# Altium footprint library Разъёмы.PcbLib: 14 footprints
Each footprint in its own frame and in the unit in brackets; x right, y up, seen from the top. Pads: shape width x height; smd on the part's side, far side on the other; paste and mask are expansions set on the pad; w line width, h text height; cw(c..) or ccw(c..) is an arc to the next point about the centre after c.
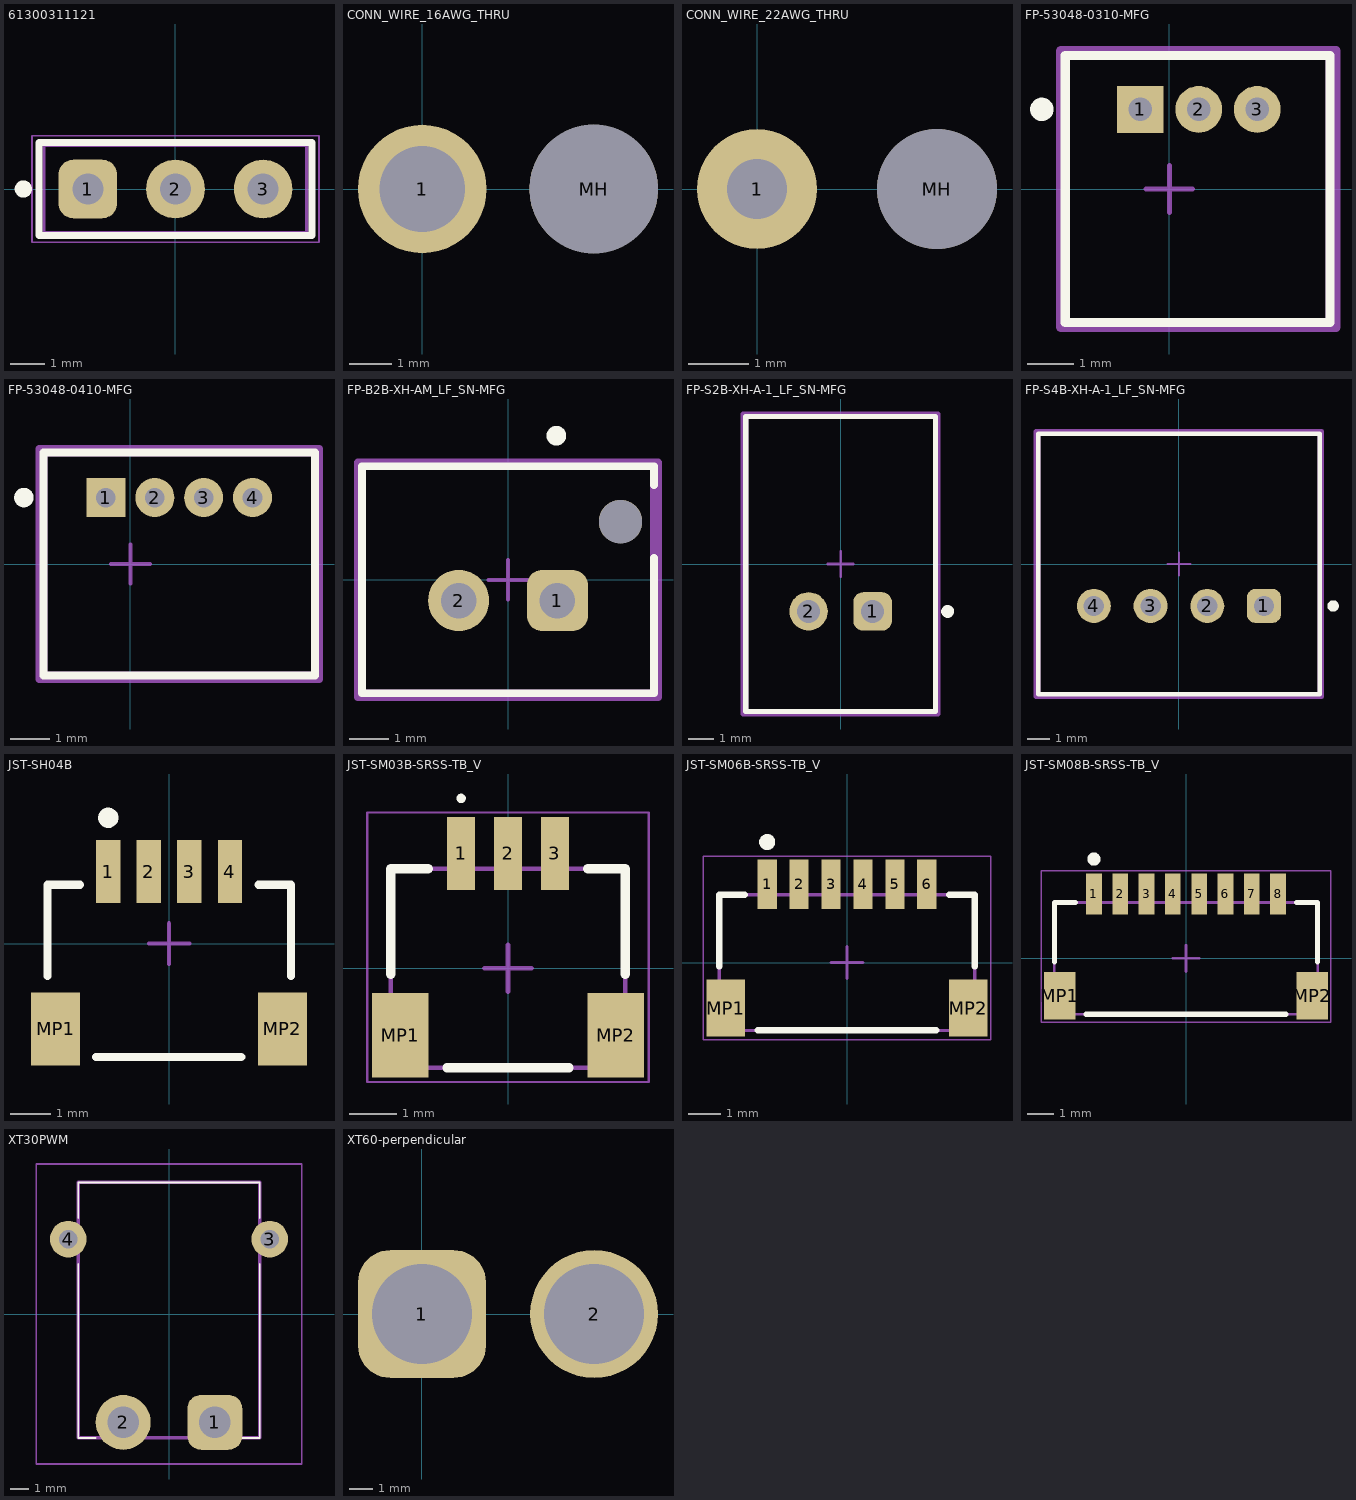
[diagram p0: the footprints below, top view; thin cyan lines are the x and y axes]

## 61300311121 [mm] "Pin Header, pitch 2.54 mm, THT, Vertical, single row, 3p"
height 8.54
pads (3):
  rrect50% 1.7x1.7 hole 0.9: 1(-2.54,0)
  round 1.7 hole 0.9: 2(0,0) 3(2.54,0)
Top Overlay:
  circle w0.25: c-4.41,0 r0.125
  lines w0.2: -3.96,-1.345 3.96,-1.345 3.96,1.345 -3.96,1.345 -3.96,-1.345
Top Courtyard:
  lines w0.05: -4.16,-1.545 -4.16,1.545 4.16,1.545 4.16,-1.545 -4.16,-1.545
Top Designator:
  text ".Designator" at -7.498,-0.5 h1.5
Top Component Outline:
  lines w0.1: -3.81,-1.27 -3.81,1.27 3.81,1.27 3.81,-1.27 -3.81,-1.27
Top Component Center:
  lines w0.05: -0.5,0 0.5,0 ; 0,-0.5 0,0.5
3D body "61300311121.stp": height 8.57, standoff -2.97, extent -3.81,-1.27 3.81,1.27

## CONN_WIRE_16AWG_THRU [mm]
pads (2):
  round 3 hole 2 paste-2539.97 mask+0: 1(0,0)
  round 3 hole 3 unplated paste-2539.97 mask+0: MH(4,0)

## CONN_WIRE_22AWG_THRU [mm]
pads (2):
  round 2 hole 1 paste-2539.97 mask+0: 1(0,0)
  round 2 hole 2 unplated paste-2539.97 mask+0: MH(3,0)

## FP-53048-0310-MFG [mm]
pads (3):
  rect 1x1 hole 0.5 paste-2539.97 mask+0: 1(-0.625,1.7)
  round 1 hole 0.5 paste-2539.97 mask+0: 2(0.625,1.7) 3(1.875,1.7)
Top Overlay:
  circle w0.25: c-2.725,1.7 r0.125
  lines w0.2: -2.225,-2.85 -2.225,2.85 3.429,2.85 3.429,-2.85 -2.225,-2.85
Top Courtyard:
  lines w0.2: -2.325,-2.95 -2.325,2.95 3.531,2.95 3.531,-2.95 -2.325,-2.95
Top 3D Body:
  lines w0.2: -2.225,-2.85 -2.225,2.85 3.429,2.85 3.429,-2.85 -2.225,-2.85
Top Assembly:
  lines w0.2: -2.325,-2.95 -2.325,2.95 3.556,2.95 3.556,-2.95 -2.325,-2.95
  text ".Designator" at 0,0.188 h1
Top Component Center:
  lines w0.1: -0.5,0 0.5,0 ; 0,-0.5 0,0.5
3D body "0530480310.stp": height 3.5, standoff -2.3, extent -2.134,-2.75 3.366,2.75

## FP-53048-0410-MFG [mm]
pads (4):
  rect 1x1 hole 0.5 paste-2539.97 mask+0: 1(-0.625,1.7)
  round 1 hole 0.5 paste-2539.97 mask+0: 2(0.625,1.7) 3(1.875,1.7) 4(3.125,1.7)
Top Overlay:
  circle w0.25: c-2.725,1.7 r0.125
  lines w0.2: -2.225,-2.85 4.724,-2.85 4.724,2.85 -2.225,2.85 -2.225,-2.85
Top Courtyard:
  lines w0.2: -2.325,-2.95 4.826,-2.95 4.826,2.95 -2.325,2.95 -2.325,-2.95
Top 3D Body:
  lines w0.2: -2.225,-2.85 4.724,-2.85 4.724,2.85 -2.225,2.85 -2.225,-2.85
Top Assembly:
  lines w0.2: -2.325,-2.95 4.826,-2.95 4.826,2.95 -2.325,2.95 -2.325,-2.95
  text ".Designator" at 0,0.188 h1
Top Component Center:
  lines w0.1: -0.5,0 0.5,0 ; 0,-0.5 0,0.5
3D body "530480410.stp": height 3.2, standoff -2.6, extent -2.134,-2.757 4.616,2.743

## FP-B2B-XH-AM_LF_SN-MFG [mm]
pads (3):
  rrect50% 1.55x1.55 hole 0.9 paste-2539.97 mask+0: 1(1.25,-0.525)
  round 1.55 hole 0.9 paste-2539.97 mask+0: 2(-1.25,-0.525)
  round 1.1 hole 1.1 unplated paste-2539.97 mask+0: ""(2.85,1.475)
Top Overlay:
  circle w0.25: c1.225,3.65 r0.125
  lines w0.2: 3.7,0.55 3.7,-2.875 -3.7,-2.875 -3.7,2.875 3.7,2.875 3.7,2.4
Top Courtyard:
  lines w0.2: -3.8,-2.975 3.8,-2.975 3.8,2.975 -3.8,2.975 -3.8,-2.975
Top 3D Body:
  lines w0.2: -3.7,-2.875 3.7,-2.875 3.7,2.875 -3.7,2.875 -3.7,-2.875
Top Assembly:
  lines w0.2: -3.8,-2.975 3.8,-2.975 3.8,2.975 -3.8,2.975 -3.8,-2.975
  text ".Designator" at 0,0.188 h1
Top Component Center:
  lines w0.1: -0.5,0 0.5,0 ; 0,-0.5 0,0.5
3D body "Conn_JST_B2B-XH-AM_LF_SN_eec.STEP": height 0.25, standoff 0, extent -3.8,-2.975 3.8,2.975

## FP-S2B-XH-A-1_LF_SN-MFG [mm]
pads (2):
  rrect50% 1.5x1.5 hole 0.9 paste-2539.97 mask+0: 1(1.25,-1.85)
  round 1.5 hole 0.9 paste-2539.97 mask+0: 2(-1.25,-1.85)
Top Overlay:
  circle w0.25: c4.175,-1.85 r0.125
  lines w0.2: -3.7,-5.75 3.7,-5.75 3.7,5.75 -3.7,5.75 -3.7,-5.75
Top Courtyard:
  lines w0.2: -3.8,-5.85 3.8,-5.85 3.8,5.85 -3.8,5.85 -3.8,-5.85
Top 3D Body:
  lines w0.2: -3.7,-5.75 3.7,-5.75 3.7,5.75 -3.7,5.75 -3.7,-5.75
Top Assembly:
  lines w0.2: -3.8,-5.85 3.8,-5.85 3.8,5.85 -3.8,5.85 -3.8,-5.85
  text ".Designator" at 0,0.188 h1
Top Component Center:
  lines w0.1: -0.5,0 0.5,0 ; 0,-0.5 0,0.5
3D body "Conn_JST_S2B-XH-A-1_LF_SN_eec.STEP": height 0.25, standoff 0, extent -3.8,-5.85 3.8,5.85

## FP-S4B-XH-A-1_LF_SN-MFG [mm]
pads (4):
  rrect50% 1.5x1.5 hole 0.9 paste-2539.97 mask+0: 1(3.75,-1.85)
  round 1.5 hole 0.9 paste-2539.97 mask+0: 2(1.25,-1.85) 3(-1.25,-1.85) 4(-3.75,-1.85)
Top Overlay:
  circle w0.25: c6.8,-1.85 r0.125
  lines w0.2: -6.2,-5.75 -6.2,5.75 6.2,5.75 6.2,-5.75 -6.2,-5.75
Top Courtyard:
  lines w0.2: -6.3,-5.85 -6.3,5.85 6.3,5.85 6.3,-5.85 -6.3,-5.85
Top 3D Body:
  lines w0.2: -6.2,-5.75 -6.2,5.75 6.2,5.75 6.2,-5.75 -6.2,-5.75
Top Assembly:
  lines w0.2: -6.3,-5.85 -6.3,5.85 6.3,5.85 6.3,-5.85 -6.3,-5.85
  text ".Designator" at 0,0.188 h1
Top Component Center:
  lines w0.1: -0.5,0 0.5,0 ; 0,-0.5 0,0.5
3D body "Conn_JST_S4B-XH-A-1_LF_SN_eec.STEP": height 0.25, standoff 0, extent -6.3,-5.85 6.3,5.85

## JST-SH04B [mm]
pads (6):
  rect 0.6x1.55 smd paste+0 mask+0: 1(-1.5,1.775) 2(-0.5,1.775) 3(0.5,1.775) 4(1.5,1.775)
  rect 1.2x1.8 smd: MP1(-2.8,-2.1) MP2(2.794,-2.1)
Top Overlay:
  circle w0.25: c-1.5,3.1 r0.125
  lines w0.2: -3,-0.8 -3,1.45 -2.2,1.45 ; -1.8,-2.8 1.778,-2.794 ; 2.2,1.45 3,1.45 3,-0.8
Top Assembly:
  text ".Designator" at -0.203,-0.581 h1
Top Component Center:
  lines w0.1: -0.5,0 0.5,0 ; 0,-0.5 0,0.5
3D body "SM04B-SRSS-TB.STEP": height 2.96, standoff 0, extent -3.003,-2.983 2.997,1.967

## JST-SM03B-SRSS-TB_V [mm] "SMD, 3-Leads, Body 5x4.25mm, Pitch 1mm"
height 2.9
pads (5):
  rect 0.6x1.55 smd: 1(-1,2.45) 2(0,2.45) 3(1,2.45)
  rect 1.2x1.8 smd: MP1(-2.3,-1.425) MP2(2.3,-1.425)
Top Overlay:
  circle w0.1: c-1,3.625 r0.05
  lines w0.2: -2.5,-0.125 -2.5,2.125 -1.7,2.125 ; -1.3,-2.125 1.3,-2.125 ; 1.7,2.125 2.5,2.125 2.5,-0.125
Mechanical 13:
  lines w0.1: -2.5,-2.125 2.5,-2.125 2.5,2.125 -2.5,2.125 -2.5,-2.125
Mechanical 15:
  lines w0.05: -3,-2.425 3,-2.425 3,3.325 -3,3.325 -3,-2.425
  lines w0.1: -0.5,0 0.5,0 ; 0,-0.5 0,0.5
3D body "SM03B-SRSS.stp": height 3.25, standoff 0.3, extent -2.5,-2.125 2.5,2.825

## JST-SM06B-SRSS-TB_V [mm] "SMD, 6-Leads, Body 8x4.25mm, Pitch 1mm"
height 2.95
pads (8):
  rect 0.6x1.55 smd: 1(-2.5,2.45) 2(-1.5,2.45) 3(-0.5,2.45) 4(0.5,2.45) 5(1.5,2.45) 6(2.5,2.45)
  rect 1.2x1.8 smd: MP1(-3.8,-1.425) MP2(3.8,-1.425)
Top Overlay:
  circle w0.25: c-2.5,3.775 r0.125
  lines w0.2: -4,-0.125 -4,2.125 -3.2,2.125 ; -2.8,-2.125 2.8,-2.125 ; 3.2,2.125 4,2.125 4,-0.125
Top Courtyard:
  lines w0.05: -4.5,-2.425 -4.5,3.325 4.5,3.325 4.5,-2.425 -4.5,-2.425
  lines w0.1: -0.5,0 0.5,0 ; 0,-0.5 0,0.5
Top 3D Body:
  lines w0.1: -4,-2.125 -4,2.125 4,2.125 4,-2.125 -4,-2.125
3D body "SM06B-SRSS-TB.STEP": height 2.96, standoff 0, extent -4,-2.117 4,2.833

## JST-SM08B-SRSS-TB_V [mm] "SMD, 8-Leads, Body 10x4.25mm, Pitch 1mm"
height 2.95
pads (10):
  rect 0.6x1.55 smd: 1(-3.5,2.45) 2(-2.5,2.45) 3(-1.5,2.45) 4(-0.5,2.45) 5(0.5,2.45) 6(1.5,2.45) 7(2.5,2.45) 8(3.5,2.45)
  rect 1.2x1.8 smd: MP1(-4.8,-1.425) MP2(4.8,-1.425)
Top Overlay:
  circle w0.25: c-3.5,3.775 r0.125
  lines w0.2: -5,-0.125 -5,2.125 -4.2,2.125 ; -3.8,-2.125 3.8,-2.125 ; 4.2,2.125 5,2.125 5,-0.125
Top Courtyard:
  lines w0.05: -5.5,-2.425 5.5,-2.425 5.5,3.325 -5.5,3.325 -5.5,-2.425
  lines w0.1: -0.5,0 0.5,0 ; 0,-0.5 0,0.5
Top 3D Body:
  lines w0.1: -5,-2.125 5,-2.125 5,2.125 -5,2.125 -5,-2.125
3D body "SM08B-SRSS.stp": height 2.96, standoff 0, extent -5,-2.125 5,2.825

## XT30PWM [mm]
pads (4):
  rrect50% 3x3 hole 1.7: 1(2.5,-5.912)
  round 3 hole 1.7: 2(-2.5,-5.912)
  round 2 hole 1: 3(5.5,4.088) 4(-5.5,4.088)
Top Overlay:
  lines w0.1: -4.95,2.737 -4.95,-6.762 -4,-6.762 ; -4.95,5.237 -4.95,7.187 4.95,7.187 4.95,5.237 ; 4,-6.762 4.95,-6.762 4.95,2.737
Mechanical 13:
  lines w0.2: -4.95,-6.762 -4.95,7.187 4.95,7.187 4.95,-6.762 -4.95,-6.762
Mechanical 15:
  lines w0.1: -7.25,-8.188 -7.25,8.188 7.25,8.188 7.25,-8.188 -7.25,-8.188
3D body "XT30PW-M.stp": height 5.06, standoff -2.44, extent -6.65,-6.761 6.65,7.189

## XT60-perpendicular [mm]
pads (2):
  rrect50% 5.5x5.5 hole 4.3: 1(0,0)
  round 5.5 hole 4.3: 2(7.4,0)
3D body "XT60FemaleConnector.STEP": height 16, standoff -4.5, extent -4.572,-3.75 11.978,3.75